# Altium schematic symbol library Connector.SchLib: 2 symbols
Pins are listed as number, name and electrical type; pins without a type are passive.

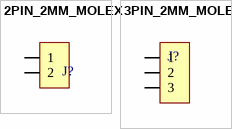
[diagram p0: symbols 2PIN_2MM_MOLEX to 3PIN_2MM_MOLEX]

## 2PIN_2MM_MOLEX
designator J?  (value not drawn)
pins: 1, 2

## 3PIN_2MM_MOLEX
designator J?  (value not drawn)
pins: 1, 2, 3